# Altium footprint library MSK12C02.PcbLib: 1 footprints
Each footprint in its own frame and in the unit in brackets; x right, y up, seen from the top. Pads: shape width x height; smd on the part's side, far side on the other; paste and mask are expansions set on the pad; w line width, h text height; cw(c..) or ccw(c..) is an arc to the next point about the centre after c.
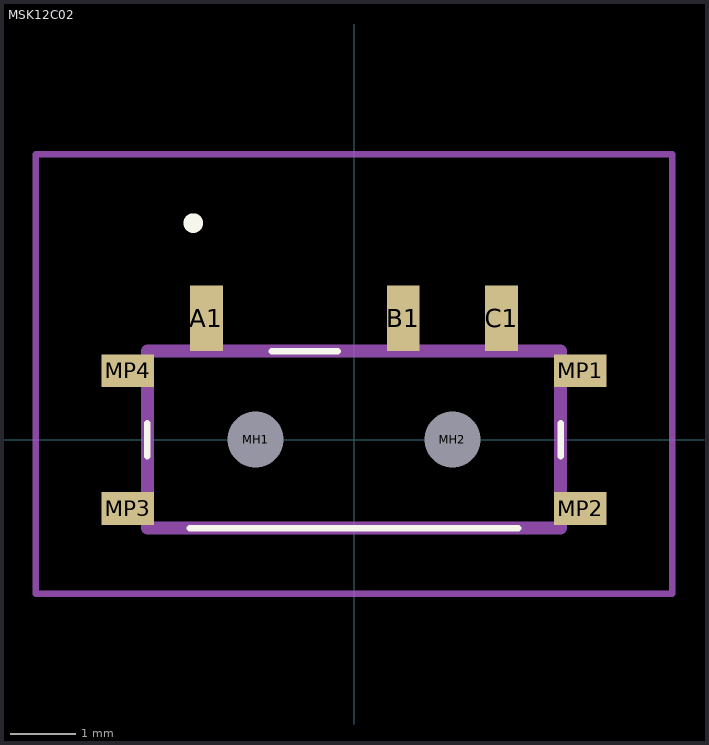
[diagram p0: the footprint, top view; thin cyan lines are the x and y axes]

## MSK12C02 [mm]
pads (9):
  rect 0.5x1 smd: A1(-2.25,1.85) B1(0.75,1.85) C1(2.25,1.85)
  round 0.425 hole 0.85 unplated: MH1(-1.5,0) MH2(1.5,0)
  rect 0.8x0.5 smd: MP1(3.45,1.05) MP2(3.45,-1.05) MP3(-3.45,-1.05) MP4(-3.45,1.05)
Top Overlay:
  lines w0.1: -3.15,-0.25 -3.15,0.25 ; -3.15,-0.25 -3.15,-0.25 ; -3.15,-0.25 -3.15,0.25 ; -3.15,0.25 -3.15,0.25 ; -2.5,-1.35 2.5,-1.35 ; -2.5,-1.35 2.5,-1.35 ; -2.5,-1.35 -2.5,-1.35 ; -1.25,1.35 -0.25,1.35 ; -1.25,1.35 -0.25,1.35 ; -1.25,1.35 -1.25,1.35 ; -0.25,1.35 -0.25,1.35 ; 2.5,-1.35 2.5,-1.35 ; 3.15,-0.25 3.15,0.25 ; 3.15,-0.25 3.15,-0.25 ; 3.15,-0.25 3.15,0.25 ; 3.15,0.25 3.15,0.25
  lines w0.2: -2.5,3.3 -2.5,3.3 ; -2.5,3.3 ccw(c-2.45,3.3) -2.4,3.3 ; -2.5,3.3 cw(c-2.45,3.3) -2.4,3.3 ; -2.5,3.3 -2.5,3.3 ; -2.5,3.3 ccw(c-2.45,3.3) -2.4,3.3 ; -2.4,3.3 -2.4,3.3
Mechanical 15:
  lines w0.2: -3.15,-1.35 3.15,-1.35 3.15,1.35 -3.15,1.35 -3.15,-1.35
Mechanical 20:
  lines w0.1: -4.85,-2.35 4.85,-2.35 4.85,4.35 -4.85,4.35 -4.85,-2.35